# EAGLE library part OPA643P (library burr-brown)
Wideband Low Distortion, High Gain Operational Amplifier
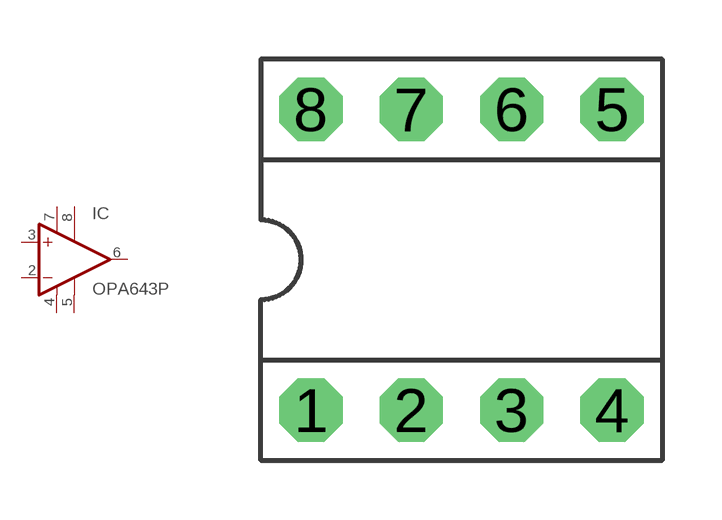
[diagram p89: symbol with the pads of DIP-08; footprint DIP-08]

Designator prefix IC

## OPA643P  [DIP-08]
2  -IN  in
3  +IN  in
4  -VS1  pwr
5  -VS2  pwr
6  OUT  out
7  +VS1  pwr
8  +VS2  pwr

## Footprint DIP-08 (pad centres in mm)
drill 0.813 pad 1.6 octagon: 1 -3.81,-3.81; 2 -1.27,-3.81; 3 1.27,-3.81; 4 3.81,-3.81; 5 3.81,3.81; 6 1.27,3.81; 7 -1.27,3.81; 8 -3.81,3.81